# Altium footprint library XRCGB24M000F0L00R0.PcbLib: 1 footprints
Each footprint in its own frame and in the unit in brackets; x right, y up, seen from the top. Pads: shape width x height; smd on the part's side, far side on the other; paste and mask are expansions set on the pad; w line width, h text height; cw(c..) or ccw(c..) is an arc to the next point about the centre after c.
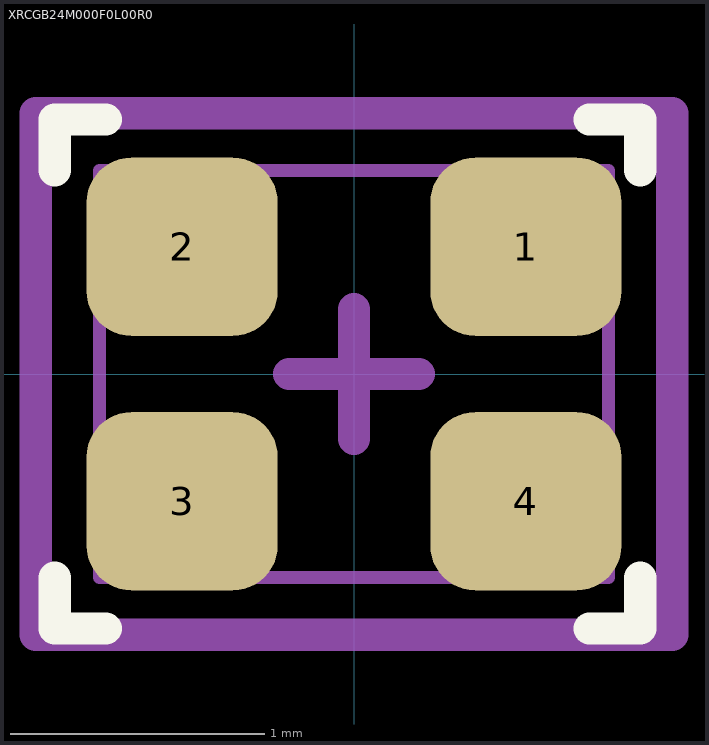
[diagram p0: the footprint, top view; thin cyan lines are the x and y axes]

## XRCGB24M000F0L00R0 [mm] "Ceramic Resonator SMD 2.00x1.6mm"
pads (4):
  rrect50% 0.75x0.7 smd: 1(0.675,0.5) 2(-0.675,0.5) 3(-0.675,-0.5) 4(0.675,-0.5)
Top Overlay:
  lines w0.127: -1.175,-0.8 -1.175,-1 -0.975,-1 ; -1.175,0.8 -1.175,1 -0.975,1 ; 0.925,-1 1.125,-1 1.125,-0.8 ; 0.925,1 1.125,1 1.125,0.8
Top Assembly:
  lines w0.051: -1,-0.8 -1,0.8 1,0.8 1,-0.8 -1,-0.8
Top Courtyard:
  lines w0.127: -0.254,0 0.254,0 ; 0,-0.254 0,0.254 ; -1.25,-1.025 -1.25,1.025 1.25,1.025 1.25,-1.025 -1.25,-1.025
3D body "User Library-XRCGB27M000F2P00R0.step": height 0.65, standoff 0, extent -1,-0.8 1,0.8